# Altium schematic symbol library L78M15CDT.SchLib: 1 symbol
Pins are listed as number, name and electrical type; pins without a type are passive.

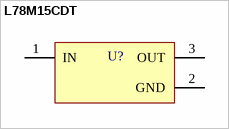
[diagram p0: symbol L78M15CDT]

## L78M15CDT
designator U?
MF: STMicroelectronics; MP: L78M15CDT-TR; SnapEDA_Link: https://www.snapeda.com/parts/L78M15CDT-TR/STMicroelectronics/view-part/369048/?ref=snap; Availability: Unavailable; Value: *; Package: TO-252 STMicroelectronics; Price: None
footprint VREG_L78M15CDT-TR
pins: 1 IN, 2 GND (power), 3 OUT